# Altium schematic symbol library RHS_FEST22-EV_Components.SchLib: 23 symbols
Pins are listed as number, name and electrical type; pins without a type are passive.

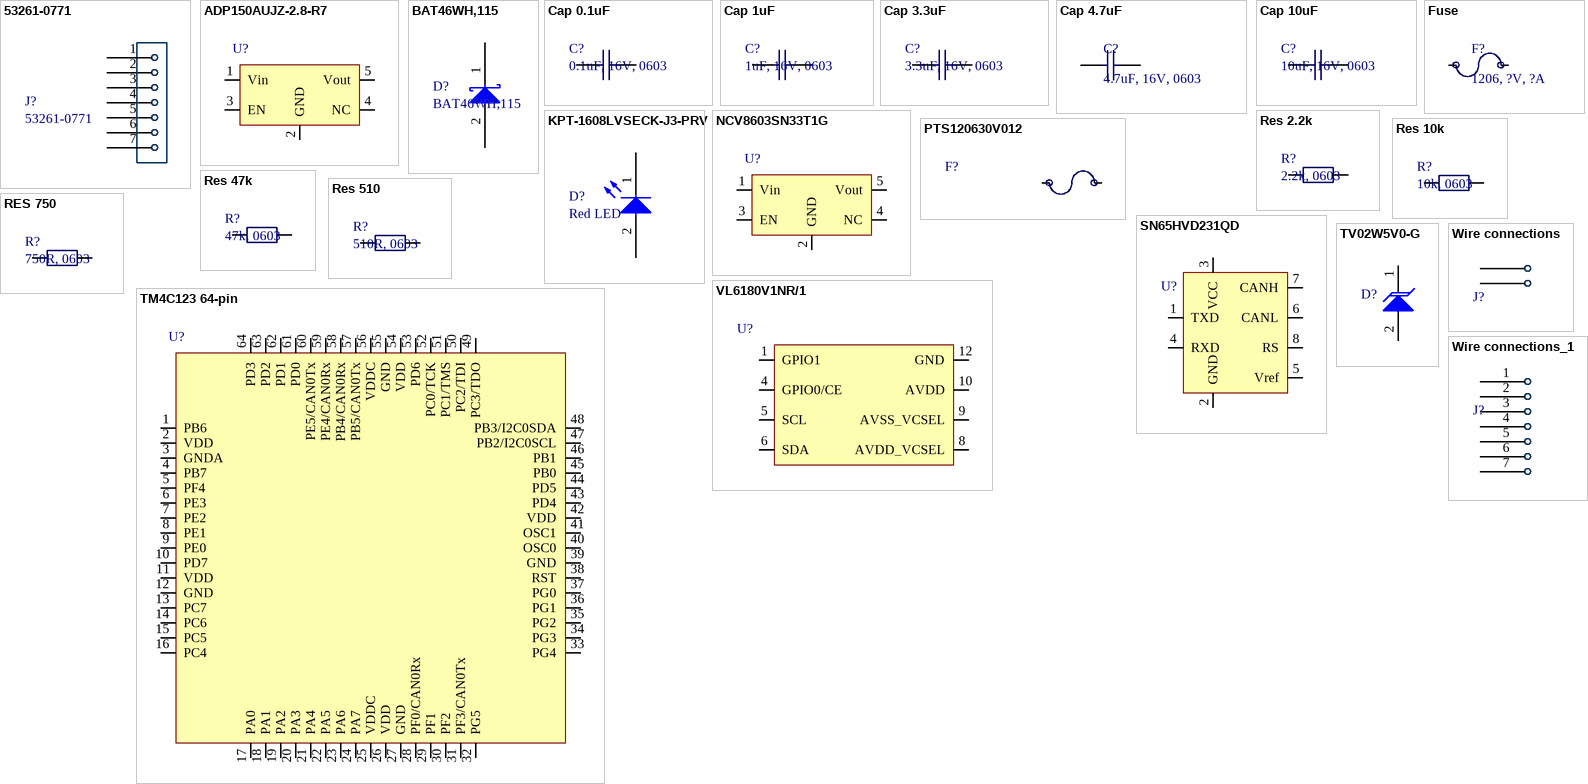
[diagram p0: symbols 53261-0771 to Wire connections_1]

## 53261-0771
designator J?
Connector; Manufacturer: Molex; Order Step: 1; Datasheet: https://www.mouser.ee/ProductDetail/Molex/53261-0771?qs=%2Fha2pyFadugsCwNxBg3%2FRHDCLTseGEMg8wdDzDUpq7U%3D; Notes: *; Price: 0.669; Product Name: 53261-0771; Supplier: Mouser; Supplier Number: 538-53261-0771
footprint Molex 53261-0771
pins: 1 VCC, 2 GND, 3 RST, 4 TDO, 5 TDI, 6 TMS, 7 TCK

## ADP150AUJZ-2.8-R7
designator U?
Linear voltage regulator; Manufacturer: Analog Devices; Product Name: ADP150AUJZ-2.8-R7; Order Step: 1; Supplier Number: 584-ADP150AUJZ-2.8R7; Datasheet: https://www.mouser.ee/datasheet/2/609/ADP150-1503284.pdf; Notes: *; Price: 0.97; Supplier: Mouser
footprint TSOT-5 (SOT23, 5-Leads, Body 3,05x3,00mm, Pitch 0,95mm, IPC Medium Density)
pins: 1 Vin, 2 GND, 3 EN, 4 NC, 5 Vout

## BAT46WH,115
designator D?
Schottky diode; Manufacturer: Nexperia; Order Step: 1; Datasheet: https://www.farnell.com/datasheets/1508345.pdf; Notes: *; Price: 0.298; Product Name: BAT46WH,115; Supplier: Mouser; Supplier Number: 771-BAT46WH115
footprint SOD-123F (SODFL, 2-Leads, Body 1,60x3,50mm, IPC Medium Density)
pins: 1 A, 2 K

## Cap 0.1uF
designator C?, comment 0.1uF, 16V, 0603
Manufacturer: MURATA; Order Step: 10; Product Name: GCM188L81H104KA57D; Datasheet: https://4donline.ihs.com/images/VipMasterIC/IC/MURE/MURE-S-A0010851662/MURE-S-A0010851692-1.pdf?hkey=6D3A4C79FDBF58556ACFDE234799DDF0; Notes: *; Price: 0.134; Supplier: Farnell; Supplier Number: 2781423
footprint CAP [0603] 1608
pins: 1, 2

## Cap 1uF
designator C?, comment 1uF, 16V, 0603
Manufacturer: MURATA; Order Step: 10; Product Name: GCJ188R71E105KA01D; Datasheet: https://www.farnell.com/datasheets/3158835.pdf; Notes: *; Price: 0.156; Supplier: Farnell; Supplier Number: 2781410
footprint CAP [0603] 1608
pins: 1, 2

## Cap 3.3uF
designator C?, comment 3.3uF, 16V, 0603
Manufacturer: TDK; Order Step: 10; Product Name: CGA3E1X5R1A335K080AC; Datasheet: https://www.farnell.com/datasheets/1807242.pdf; Notes: *; Price: 0.16; Supplier: Farnell; Supplier Number: 2210840
footprint CAP [0603] 1608
pins: 1, 2

## Cap 4.7uF
designator C?, comment 4.7uF, 16V, 0603
Manufacturer: MURATA; Product Name: GRT188R61C475KE13D; Order Step: 10; Supplier Number: 3581438; Supplier: Farnell; Notes: *; Price: 0.45; Datasheet: *
footprint CAP [0402] 1005
footprint CAP [0603] 1608
footprint CAP [0805] 2012
footprint CAP [1008] 2520
footprint CAP [1206] 3216
footprint CAP [1206] 3216 Tantalum (Chip Capacitor, 2-Leads, Body 3.20x1.65mm, IPC Medium Density)
footprint CAP [1210] 3225
footprint CAP [1806] 4516
footprint CAP [1812] 4532
footprint CAP [2010] 5025
footprint CAP [2512] 6332
footprint CAP [3216] 1206
footprint CAP [3225] 1210 (Chip Capacitor, 2-Leads, Body 3.20x2.50mm, IPC Medium Density)
footprint CAP [5650] 2220
pins: 1, 2

## Cap 10uF
designator C?, comment 10uF, 16V, 0603
Manufacturer: MURATA; Order Step: 10; Product Name: GRM188R61A106MAALD; Datasheet: https://4donline.ihs.com/images/VipMasterIC/IC/MURE/MURE-S-A0010871772/MURE-S-A0010871249-1.pdf?hkey=6D3A4C79FDBF58556ACFDE234799DDF0; Notes: *; Price: 0.384; Supplier: Farnell; Supplier Number: 3581376
footprint CAP [0603] 1608
pins: 1, 2

## Fuse
designator F?, comment 1206, ?V, ?A
Manufacturer: Littlefuse; Product Name: 0467.250NR; Order Step: 10; Supplier Number: 1596942; Supplier: Farnell; Notes: *; Price: 0.664; Datasheet: https://www.farnell.com/datasheets/2282563.pdf
footprint RES [0603] 1608
pins: 1, 2

## KPT-1608LVSECK-J3-PRV
designator D?, comment Red LED
Manufacturer: KINGBRIGHT; Order Step: 5; Product Name: KPT-1608LVSECK-J3-PRV; Datasheet: http://www.farnell.com/datasheets/2068420.pdf?_ga=2.36173545.89986474.1576161266-1510626616.1539531469; Notes: *; Price: 0,419; Supplier: Farnell; Supplier Number: 2610406
footprint LED [0603] 1608 (Chip Diode, 2-Leads, Body 1.60x0.80mm, IPC Medium Density)
pins: 1 A, 2 K

## NCV8603SN33T1G
designator U?
Linear voltage regulator; Manufacturer: onsemi; Product Name: NCV8603SN33T1G; Order Step: 1; Supplier Number: 863-NCV8603SN33T1G; Datasheet: https://www.mouser.ee/datasheet/2/308/1/NCV8603_D-2317642.pdf; Notes: *; Price: 0.613; Supplier: Mouser
footprint TSOT-5 (SOT23, 5-Leads, Body 3,05x3,00mm, Pitch 0,95mm, IPC Medium Density)
pins: 1 Vin, 2 GND, 3 EN, 4 NC, 5 Vout

## PTS120630V012
designator F?
Fuse; Manufacturer: Littlefuse; Order Step: 10; Product Name: 0466.200NR; Datasheet: https://www.farnell.com/datasheets/1796765.pdf; Notes: *; Price: 0.589; Supplier: Farnell; Supplier Number: 1596522
footprint CAP [0603] 1608
pins: 1, 2

## Res 2.2k
designator R?, comment 2.2k, 0603
Manufacturer: YAGEO; Order Step: 10; Product Name: AC0603FR-072K2L; Datasheet: https://www.farnell.com/datasheets/3046027.pdf; Notes: *; Price: 0.0369; Supplier: Farnell; Supplier Number: 3495253
footprint RES [0603] 1608
pins: 1, 2

## Res 10k
designator R?, comment 10k, 0603
Manufacturer: Yageo; Order Step: 10; Product Name: AC0603FR-0710KL; Datasheet: https://www.farnell.com/datasheets/3577113.pdf; Notes: *; Price: 0.0413; Supplier: Farnell; Supplier Number: 3495224
footprint RES [0603] 1608
pins: 1, 2

## Res 47k
designator R?, comment 47k, 0603
Manufacturer: YAGEO; Order Step: 10; Product Name: AC0603FR-0747KL; Datasheet: https://www.farnell.com/datasheets/3046027.pdf; Notes: *; Price: 0.038; Supplier: Farnell; Supplier Number: 3495270
footprint RES [0603] 1608
pins: 1, 2

## Res 510
designator R?, comment 510R, 0603
Manufacturer: YAGEO; Order Step: 10; Product Name: RC0603FR-07510RL; Datasheet: https://www.farnell.com/datasheets/3046031.pdf; Notes: *; Price: 0.0266; Supplier: Farnell; Supplier Number: 3495869
footprint RES [0603] 1608
pins: 1, 2

## RES 750
designator R?, comment 750R, 0603
Manufacturer: YAGEO; Order Step: 10; Product Name: RC0603FR-07750RL; Datasheet: https://www.farnell.com/datasheets/3046031.pdf; Notes: *; Price: 0.0289; Supplier: Farnell; Supplier Number: 3495907
footprint RES [0603] 1608
pins: 1, 2

## SN65HVD231QD
designator U?
CAN tranciever; Manufacturer: Texas Instruments; Product Name: SN65HVD231QD; Order Step: 1; Supplier Number: 296-12704-5-ND; Datasheet: https://www.ti.com/lit/ds/symlink/sn65hvd231q-q1.pdf?HQS=dis-mous-null-mousermode-dsf-pf-null-wwe&ts=1637169427896&ref_url=https%253A%252F%252Fwww.mouser.ee%252F; Notes: *; Price: 3,93; Supplier: Digi-key
footprint SOIC-8 (SOIC, 8-Leads, Body 4,91x3,90mm, Pitch 1,27mm, IPC Medium Density)
pins: 1 TXD, 2 GND, 3 VCC, 4 RXD, 5 Vref, 6 CANL, 7 CANH, 8 RS

## TM4C123 64-pin
designator U?  (value not drawn)
MCU 32-Bit Tiva C ARM Cortex M4F RISC 256KB Flash 1.2V/3.3V 64-Pin LQFP Tray/Tube; Manufacturer: Texas Instruments; Product Name: TM4C1230H6PMIR; Order Step: 1; Supplier Number: ‎296-43613-1-ND‎; Datasheet: https://www.ti.com/general/docs/suppproductinfo.tsp?distId=10&gotoUrl=https%3A%2F%2Fwww.ti.com%2Flit%2Fgpn%2Ftm4c1230h6pm; Notes: *; Price (1st level): 7.45; Supplier: Digi-Key
footprint LQFP64
pins: 1 PB6, 2 VDD, 3 GNDA, 4 PB7, 5 PF4, 6 PE3, 7 PE2, 8 PE1, 9 PE0, 10 PD7, 11 VDD, 12 GND, 13 PC7, 14 PC6, 15 PC5, 16 PC4, 17 PA0, 18 PA1, 19 PA2, 20 PA3, 21 PA4, 22 PA5, 23 PA6, 24 PA7, 25 VDDC, 26 VDD, 27 GND, 28 PF0/CAN0Rx, 29 PF1, 30 PF2, 31 PF3/CAN0Tx, 32 PG5, 33 PG4, 34 PG3, 35 PG2, 36 PG1, 37 PG0, 38 RST, 39 GND, 40 OSC0, 41 OSC1, 42 VDD, 43 PD4, 44 PD5, 45 PB0, 46 PB1, 47 PB2/I2C0SCL, 48 PB3/I2C0SDA, 49 PC3/TDO, 50 PC2/TDI, 51 PC1/TMS, 52 PC0/TCK, 53 PD6, 54 VDD, 55 GND, 56 VDDC, 57 PB5/CAN0Tx, 58 PB4/CAN0Rx, 59 PE4/CAN0Rx, 60 PE5/CAN0Tx, 61 PD0, 62 PD1, 63 PD2, 64 PD3

## TV02W5V0-G
designator D?
TVS diode; Manufacturer: Comchip; Product Name: TV02W5V0-G; Order Step: 1; Supplier Number: 750-TV02W5V0-G; Datasheet: https://www.mouser.ee/datasheet/2/80/TV02W_G_series_RevE-2506525.pdf; Notes: *; Price: 0,368; Supplier: Mouser
footprint SOD-123-2
pins: 1 K, 2 A

## VL6180V1NR/1
designator U?
Time-of-Flight proximity sensor, 2.6V, 3V, Optical, RoHS; Manufacturer: STMicroelectronics; Product Name: VL6180V1NR/1; Order Step: 1; Supplier Number: 511-VL6180V1NR/1; Datasheet: https://www.mouser.ee/datasheet/2/389/dm00089971-1862074.pdf; Notes: *; Price: 3.53; Supplier: Mouser
footprint VL6180 (PSON, 12-Leads, Body 4,80x2,80mm, Pitch 0,75mm, IPC Medium Density)
pins: 1 GPIO1, 4 GPIO0/CE, 5 SCL, 6 SDA, 8 AVDD_VCSEL, 9 AVSS_VCSEL, 10 AVDD, 12 GND

## Wire connections
designator J?  (value not drawn)
Wire connections
footprint Wire pads
pins: 1, 2

## Wire connections_1
designator J?  (value not drawn)
Extra through holes
footprint Free pins
pins: 1, 2, 3, 4, 5, 6, 7